# Altium footprint library PcbLib_nizovie.PcbLib: 15 footprints
Each footprint in its own frame and in the unit in brackets; x right, y up, seen from the top. Pads: shape width x height; smd on the part's side, far side on the other; paste and mask are expansions set on the pad; w line width, h text height; cw(c..) or ccw(c..) is an arc to the next point about the centre after c.
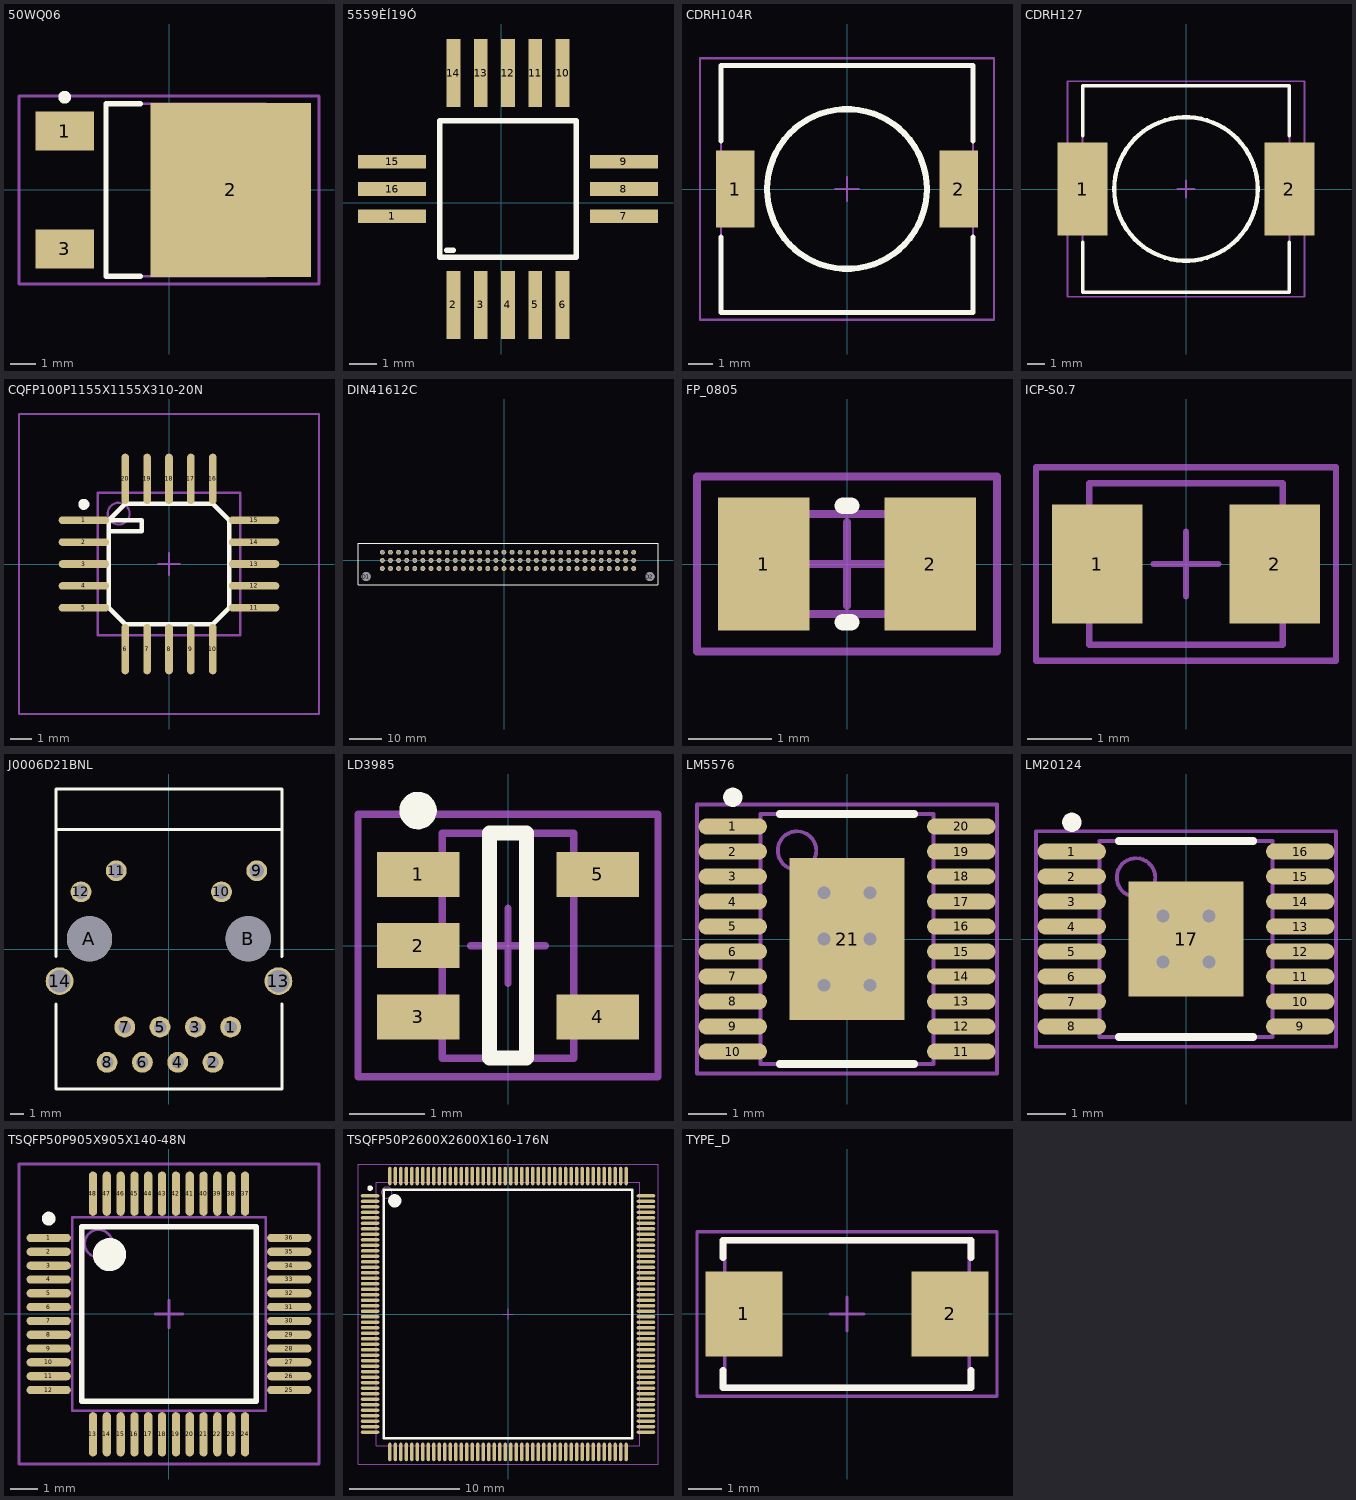
[diagram p0: the footprints below, top view; thin cyan lines are the x and y axes]

## 50WQ06 [mm] "D-PAK, 3-Pads, Body 6,2x6,7mm (max), IPC Medium Density"
height 2.39
pads (3):
  rect 2.28x1.524 smd: 1(-4.05,2.29) 3(-4.05,-2.29)
  rect 6.23x6.74 smd: 2(2.4,0)
Top Overlay:
  circle w0.25: c-4.05,3.602 r0.125
  lines w0.2: -1.115,-3.35 -2.45,-3.35 -2.45,3.35 -1.115,3.35
Mechanical 13:
  lines w0.1: -2.45,-3.35 -2.45,3.35 3.75,3.35 3.75,-3.35 -2.45,-3.35
Mechanical 15:
  lines w0.1: -0.5,0 0.5,0 ; 0,-0.5 0,0.5 ; -5.825,-3.65 -5.825,3.65 5.825,3.65 5.825,-3.65 -5.825,-3.65
3D body: height 2.39, standoff 0.61, extent -2.45,-3.35 3.75,3.35

## 5559ÈÍ19Ó [mm]
pads (16):
  rect 2.5x0.5 smd: 1(-4,-0.5) 7(4.5,-0.5) 8(4.5,0.5) 9(4.5,1.5) 15(-4,1.5) 16(-4,0.5)
  rect 0.5x2.5 smd: 2(-1.75,-3.75) 3(-0.75,-3.75) 4(0.25,-3.75) 5(1.25,-3.75) 6(2.25,-3.75) 10(2.25,4.75) 11(1.25,4.75) 12(0.25,4.75) 13(-0.75,4.75) 14(-1.75,4.75)
Top Overlay:
  lines w0.2: -2,-1.75 -1.75,-1.75 ; -2.25,-2 2.75,-2 2.75,3 -2.25,3 -2.25,-2
3D body: height 3, standoff 0, extent -3,-2.75 3.5,3.75

## CDRH104R [mm] "Precision Wire Wound Inductor, 2-Leads, Body 10,5x10,3mm, IPC Medium Density"
height 4
pads (2):
  rect 1.6x3.2 smd: 1(-4.65,0) 2(4.65,0)
Top Overlay:
  circle w0.254: c0,0 r3.327
  lines w0.2: -5.25,-2 -5.25,-5.15 5.25,-5.15 5.25,-2 ; -5.25,2 -5.25,5.15 5.25,5.15 5.25,2
Mechanical 13:
  lines w0.1: -5.25,-5.15 5.25,-5.15 5.25,5.15 -5.25,5.15 -5.25,-5.15
Mechanical 15:
  lines w0.1: -0.5,0 0.5,0 ; 0,-0.5 0,0.5 ; -6.125,-5.45 6.125,-5.45 6.125,5.45 -6.125,5.45 -6.125,-5.45
3D body: height 4, standoff 0, extent -5.25,-5.15 5.25,5.15

## CDRH127 [mm] "Precision Wire Wound Inductor, 2-Leads, Body 12,0x12,0mm, IPC Medium Density"
height 8
pads (2):
  rect 2.9x5.4 smd: 1(-6,0) 2(6,0)
Top Overlay:
  circle w0.254: c0,0 r4.16
  lines w0.2: -6,-3.1 -6,-6 6,-6 6,-3.1 ; -6,3.1 -6,6 6,6 6,3.1
Mechanical 13:
  lines w0.1: -6,-6 -6,6 6,6 6,-6 -6,-6
Mechanical 15:
  lines w0.1: -0.5,0 0.5,0 ; 0,-0.5 0,0.5 ; -6.875,-6.25 -6.875,6.25 6.875,6.25 6.875,-6.25 -6.875,-6.25
3D body: height 8, standoff 0, extent -6,-6 6,6

## CQFP100P1155X1155X310-20N [mm] "CQFP, 20-Leads, Body 11,3x11,3mm (max), Pitch 1,00mm, IPC Medium Density"
height 3.1
pads (20):
  oval 2.3x0.35 smd: 1(-3.89,2) 2(-3.89,1) 3(-3.89,0) 4(-3.89,-1) 5(-3.89,-2) 11(3.89,-2) 12(3.89,-1) 13(3.89,0) 14(3.89,1) 15(3.89,2)
  oval 0.35x2.3 smd: 6(-2,-3.89) 7(-1,-3.89) 8(0,-3.89) 9(1,-3.89) 10(2,-3.89) 16(2,3.89) 17(1,3.89) 18(0,3.89) 19(-1,3.89) 20(-2,3.89)
Top Overlay:
  circle w0.25: c-3.89,2.725 r0.125
  lines w0.2: -2.75,1.5 -1.25,1.5 -1.25,2 -2.75,2 ; -2.75,2 -2.75,-2 -2,-2.75 2,-2.75 2.75,-2 2.75,2 2,2.75 -2,2.75 -2.75,2
Mechanical 13:
  circle w0.1: c-2.3,2.3 r0.5
  lines w0.1: -3.25,-3.25 -3.25,3.25 3.25,3.25 3.25,-3.25 -3.25,-3.25
Mechanical 15:
  lines w0.1: -0.5,0 0.5,0 ; 0,-0.5 0,0.5 ; -6.85,-6.85 -6.85,6.85 6.85,6.85 6.85,-6.85 -6.85,-6.85
3D body: height 3.1, standoff 0.25, extent -3.25,-3.25 3.25,3.25

## DIN41612C [mm]
pads (98):
  round 1.524 hole 1: A1(40.6,-2.54) A2(38.06,-2.54) A3(35.52,-2.54) A4(32.98,-2.54) A5(30.44,-2.54) A6(27.9,-2.54) A7(25.36,-2.54) A8(22.82,-2.54) A9(20.28,-2.54) A10(17.74,-2.54) A11(15.2,-2.54) A12(12.66,-2.54) A13(10.12,-2.54) A14(7.58,-2.54) A15(5.04,-2.54) A16(2.5,-2.54) A17(-0.04,-2.54) A18(-2.58,-2.54) A19(-5.12,-2.54) A20(-7.66,-2.54) A21(-10.2,-2.54) A22(-12.74,-2.54) A23(-15.28,-2.54) A24(-17.82,-2.54) A25(-20.36,-2.54) A26(-22.9,-2.54) A27(-25.44,-2.54) A28(-27.98,-2.54) A29(-30.52,-2.54) A30(-33.06,-2.54) A31(-35.6,-2.54) A32(-38.14,-2.54) B1(40.6,0) B2(38.06,0) B3(35.52,0) B4(32.98,0) B5(30.44,0) B6(27.9,0) B7(25.36,0) B8(22.82,0) B9(20.28,0) B10(17.74,0) B11(15.2,0) B12(12.66,0) B13(10.12,0) B14(7.58,0) B15(5.04,0) B16(2.5,0) B17(-0.04,0) B18(-2.58,0) B19(-5.12,0) B20(-7.66,0) B21(-10.2,0) B22(-12.74,0) B23(-15.28,0) B24(-17.82,0) B25(-20.36,0) B26(-22.9,0) B27(-25.44,0) B28(-27.98,0) B29(-30.52,0) B30(-33.06,0) B31(-35.6,0) B32(-38.14,0) C1(40.6,2.54) C2(38.06,2.54) C3(35.52,2.54) C4(32.98,2.54) C5(30.44,2.54) C6(27.9,2.54) C7(25.36,2.54) C8(22.82,2.54) C9(20.28,2.54) C10(17.74,2.54) C11(15.2,2.54) C12(12.66,2.54) C13(10.12,2.54) C14(7.58,2.54) C15(5.04,2.54) C16(2.5,2.54) C17(-0.04,2.54) C18(-2.58,2.54) C19(-5.12,2.54) C20(-7.66,2.54) C21(-10.2,2.54) C22(-12.74,2.54) C23(-15.28,2.54) C24(-17.82,2.54) C25(-20.36,2.54) C26(-22.9,2.54) C27(-25.44,2.54) C28(-27.98,2.54) C29(-30.52,2.54) C30(-33.06,2.54) C31(-35.6,2.54) C32(-38.14,2.54)
  round 2.8 hole 2.8: D1(-43.22,-5.08) D2(45.68,-5.08)
Top Overlay:
  lines w0.2: -45.77,-7.63 48.23,-7.63 ; -45.77,-7.555 -45.77,5.37 48.23,5.37 48.23,-7.555

## FP_0805 [mm] "Chip Resistor, 2-Leads, Body 2,1x1,3mm, IPC Medium Density"
height 0.55
pads (2):
  rect 1.1x1.6 smd: 1(-1,0) 2(1,0)
Top Overlay:
  lines w0.2: -0.05,-0.7 0.05,-0.7 ; -0.05,0.7 0.05,0.7
Mechanical 13:
  lines w0.1: -1.1,-0.6 -1.1,0.6 1.1,0.6 1.1,-0.6 -1.1,-0.6
Mechanical 15:
  lines w0.1: -0.5,0 0.5,0 ; 0,-0.5 0,0.5 ; -1.8,-1.05 -1.8,1.05 1.8,1.05 1.8,-1.05 -1.8,-1.05
3D body: height 0.55, standoff 0, extent -1.1,-0.6 1.1,0.6

## ICP-S0.7 [mm] "Molded Capacitor, 2-Leads, Body 3,0x2,5mm, IPC Medium Density"
height 1.8
pads (2):
  rect 1.4x1.85 smd: 1(-1.375,0) 2(1.375,0)
Mechanical 13:
  lines w0.1: -1.5,-1.25 1.5,-1.25 1.5,1.25 -1.5,1.25 -1.5,-1.25
Mechanical 15:
  lines w0.1: -0.5,0 0.5,0 ; 0,-0.5 0,0.5 ; -2.325,-1.5 2.325,-1.5 2.325,1.5 -2.325,1.5 -2.325,-1.5
3D body: height 1.8, standoff 0, extent -1.5,-1.25 1.5,1.25

## J0006D21BNL [mm]
pads (16):
  round 1.5 hole 0.9: 1(4.445,-5.588) 2(3.175,-8.128) 3(1.905,-5.588) 4(0.635,-8.128) 5(-0.635,-5.588) 6(-1.905,-8.128) 7(-3.175,-5.588) 8(-4.445,-8.128)
  round 1.5 hole 1.02: 9(6.325,5.662) 10(3.785,4.142) 11(-3.785,5.662) 12(-6.325,4.142)
  round 2 hole 1.6: 13(7.885,-2.288) 14(-7.865,-2.288)
  round 3.25 hole 3.25: A(-5.715,0.762) B(5.715,0.762)
Top Overlay:
  lines w0.2: -8.128,-3.937 -8.125,-3.94 -8.125,-10.048 8.135,-10.048 8.135,-3.944 8.128,-3.937 ; -8.128,-0.508 -8.125,-0.505 -8.125,11.542 8.135,11.542 8.135,-0.501 ; -8.125,8.622 8.135,8.622 ; 8.135,-0.501 8.128,-0.508 8.135,-0.501

## LD3985 [mm] "SOT23, 5-Leads, Body 3,0x3,0mm (max), Pitch 0,95mm, IPC Medium Density"
height 1.45
pads (5):
  rect 1.1x0.6 smd: 1(-1.2,0.95) 2(-1.2,0) 3(-1.2,-0.95) 4(1.2,-0.95) 5(1.2,0.95)
Top Overlay:
  circle w0.25: c-1.2,1.8 r0.125
  lines w0.2: -0.25,-1.5 0.25,-1.5 0.25,1.5 -0.25,1.5 -0.25,-1.5
Mechanical 13:
  lines w0.1: -0.875,-1.5 -0.875,1.5 0.875,1.5 0.875,-1.5 -0.875,-1.5
Mechanical 15:
  lines w0.1: -0.5,0 0.5,0 ; 0,-0.5 0,0.5 ; -2,-1.75 -2,1.75 2,1.75 2,-1.75 -2,-1.75
3D body: height 1.45, standoff 0.05, extent -0.875,-1.5 0.875,1.5

## LM5576 [mm] "TSOP, 20-Leads, Body 6,5x4,5mm (max), Pitch 0,65mm, IPC Medium Density"
height 1.1
pads (21):
  oval 1.78x0.42 smd: 1(-2.97,2.925) 2(-2.97,2.275) 3(-2.97,1.625) 4(-2.97,0.975) 5(-2.97,0.325) 6(-2.97,-0.325) 7(-2.97,-0.975) 8(-2.97,-1.625) 9(-2.97,-2.275) 10(-2.97,-2.925) 11(2.97,-2.925) 12(2.97,-2.275) 13(2.97,-1.625) 14(2.97,-0.975) 15(2.97,-0.325) 16(2.97,0.325) 17(2.97,0.975) 18(2.97,1.625) 19(2.97,2.275) 20(2.97,2.925)
  rect 3x4.2 smd: 21(0,0)
via -0.6,1.2 diameter 0.66 hole 0.33
via 0.6,1.2 diameter 0.66 hole 0.33
via -0.6,0 diameter 0.66 hole 0.33
via 0.6,0 diameter 0.66 hole 0.33
via -0.6,-1.2 diameter 0.66 hole 0.33
via 0.6,-1.2 diameter 0.66 hole 0.33
Top Overlay:
  circle w0.25: c-2.97,3.685 r0.125
  lines w0.2: -1.75,-3.25 1.75,-3.25 ; -1.75,3.25 1.75,3.25
Top Solder:
  lines w0.2: -3.749,0 -2.225,0 ; -3.724,-2.6 -2.2,-2.6 ; -3.724,-1.95 -2.2,-1.95 ; -3.724,-1.3 -2.2,-1.3 ; -3.724,-0.65 -2.2,-0.65 ; -3.724,0.65 -2.2,0.65 ; -3.724,1.3 -2.2,1.3 ; -3.724,2.6 -2.2,2.6 ; -3.699,1.95 -2.175,1.95 ; 2.201,-2.6 3.725,-2.6 ; 2.201,-1.95 3.725,-1.95 ; 2.201,-1.3 3.725,-1.3 ; 2.201,1.3 3.725,1.3 ; 2.201,1.95 3.725,1.95 ; 2.226,-0.65 3.75,-0.65 ; 2.226,0 3.75,0 ; 2.226,0.65 3.75,0.65 ; 2.226,2.6 3.75,2.6
Mechanical 13:
  circle w0.1: c-1.3,2.3 r0.5
  lines w0.1: -2.25,-3.25 -2.25,3.25 2.25,3.25 2.25,-3.25 -2.25,-3.25
Mechanical 15:
  lines w0.1: -0.5,0 0.5,0 ; 0,-0.5 0,0.5 ; -3.9,-3.5 -3.9,3.5 3.9,3.5 3.9,-3.5 -3.9,-3.5
3D body: height 1.1, standoff 0.1, extent -2.25,-3.25 2.25,3.25

## LM20124 [mm] "TSOP, 16-Leads, Body 5,1x4,5mm (max), Pitch 0,65mm, IPC Medium Density"
height 1.1
pads (17):
  oval 1.78x0.42 smd: 1(-2.97,2.275) 2(-2.97,1.625) 3(-2.97,0.975) 4(-2.97,0.325) 5(-2.97,-0.325) 6(-2.97,-0.975) 7(-2.97,-1.625) 8(-2.97,-2.275) 9(2.97,-2.275) 10(2.97,-1.625) 11(2.97,-0.975) 12(2.97,-0.325) 13(2.97,0.325) 14(2.97,0.975) 15(2.97,1.625) 16(2.97,2.275)
  rect 3x3 smd: 17(0,0)
via 0.6,-0.6 diameter 0.66 hole 0.33
via -0.6,-0.6 diameter 0.66 hole 0.33
via 0.6,0.6 diameter 0.66 hole 0.33
via -0.6,0.6 diameter 0.66 hole 0.33
Top Overlay:
  circle w0.25: c-2.97,3.035 r0.125
  lines w0.2: -1.75,-2.55 1.75,-2.55 ; -1.75,2.55 1.75,2.55
Top Solder:
  lines w0.2: -3.725,-0.65 -2.25,-0.65 ; -3.725,0 -2.25,0 ; -3.725,0.65 -2.25,0.65 ; -3.725,1.3 -2.25,1.3 ; -3.7,-1.95 -2.225,-1.95 ; -3.7,-1.3 -2.225,-1.3 ; -3.7,1.95 -2.225,1.95 ; 2.25,-1.95 3.725,-1.95 ; 2.25,-1.3 3.725,-1.3 ; 2.25,-0.65 3.725,-0.65 ; 2.25,1.3 3.725,1.3 ; 2.25,1.95 3.725,1.95 ; 2.275,0 3.75,0 ; 2.275,0.65 3.75,0.65
Mechanical 13:
  circle w0.1: c-1.3,1.6 r0.5
  lines w0.1: -2.25,-2.55 2.25,-2.55 2.25,2.55 -2.25,2.55 -2.25,-2.55
Mechanical 15:
  lines w0.1: -0.5,0 0.5,0 ; 0,-0.5 0,0.5 ; -3.9,-2.8 3.9,-2.8 3.9,2.8 -3.9,2.8 -3.9,-2.8
3D body: height 1.1, standoff 0.1, extent -2.25,-2.55 2.25,2.55

## TSQFP50P905X905X140-48N [mm] "TSQFP, 48-Leads, Body 8,9x8,9mm (max), Pitch 0,50mm, IPC Medium Density"
height 1.4
pads (48):
  oval 1.6x0.3 smd: 1(-4.35,2.75) 2(-4.35,2.25) 3(-4.35,1.75) 4(-4.35,1.25) 5(-4.35,0.75) 6(-4.35,0.25) 7(-4.35,-0.25) 8(-4.35,-0.75) 9(-4.35,-1.25) 10(-4.35,-1.75) 11(-4.35,-2.25) 12(-4.35,-2.75) 25(4.35,-2.75) 26(4.35,-2.25) 27(4.35,-1.75) 28(4.35,-1.25) 29(4.35,-0.75) 30(4.35,-0.25) 31(4.35,0.25) 32(4.35,0.75) 33(4.35,1.25) 34(4.35,1.75) 35(4.35,2.25) 36(4.35,2.75)
  oval 0.3x1.6 smd: 13(-2.75,-4.35) 14(-2.25,-4.35) 15(-1.75,-4.35) 16(-1.25,-4.35) 17(-0.75,-4.35) 18(-0.25,-4.35) 19(0.25,-4.35) 20(0.75,-4.35) 21(1.25,-4.35) 22(1.75,-4.35) 23(2.25,-4.35) 24(2.75,-4.35) 37(2.75,4.35) 38(2.25,4.35) 39(1.75,4.35) 40(1.25,4.35) 41(0.75,4.35) 42(0.25,4.35) 43(-0.25,4.35) 44(-0.75,4.35) 45(-1.25,4.35) 46(-1.75,4.35) 47(-2.25,4.35) 48(-2.75,4.35)
Top Overlay:
  circle w0.6: c-2.15,2.15 r0.3
  circle w0.25: c-4.35,3.45 r0.125
  lines w0.2: -3.15,-3.15 3.15,-3.15 3.15,3.15 -3.15,3.15 -3.15,-3.15
Mechanical 13:
  circle w0.1: c-2.55,2.55 r0.5
  lines w0.1: -3.5,-3.5 3.5,-3.5 3.5,3.5 -3.5,3.5 -3.5,-3.5
Mechanical 15:
  lines w0.1: -0.5,0 0.5,0 ; 0,-0.5 0,0.5 ; -5.425,-5.425 5.425,-5.425 5.425,5.425 -5.425,5.425 -5.425,-5.425
3D body: height 1.4, standoff 0.05, extent -3.5,-3.5 3.5,3.5

## TSQFP50P2600X2600X160-176N [mm] "TSQFP, 176-Leads, Body 26,1x26,1mm (max), Pitch 0,50mm, IPC Medium Density"
height 1.6
pads (176):
  oval 1.7x0.3 smd: 1(-12.55,10.75) 2(-12.55,10.25) 3(-12.55,9.75) 4(-12.55,9.25) 5(-12.55,8.75) 6(-12.55,8.25) 7(-12.55,7.75) 8(-12.55,7.25) 9(-12.55,6.75) 10(-12.55,6.25) 11(-12.55,5.75) 12(-12.55,5.25) 13(-12.55,4.75) 14(-12.55,4.25) 15(-12.55,3.75) 16(-12.55,3.25) 17(-12.55,2.75) 18(-12.55,2.25) 19(-12.55,1.75) 20(-12.55,1.25) 21(-12.55,0.75) 22(-12.55,0.25) 23(-12.55,-0.25) 24(-12.55,-0.75) 25(-12.55,-1.25) 26(-12.55,-1.75) 27(-12.55,-2.25) 28(-12.55,-2.75) 29(-12.55,-3.25) 30(-12.55,-3.75) 31(-12.55,-4.25) 32(-12.55,-4.75) 33(-12.55,-5.25) 34(-12.55,-5.75) 35(-12.55,-6.25) 36(-12.55,-6.75) 37(-12.55,-7.25) 38(-12.55,-7.75) 39(-12.55,-8.25) 40(-12.55,-8.75) 41(-12.55,-9.25) 42(-12.55,-9.75) 43(-12.55,-10.25) 44(-12.55,-10.75) 89(12.55,-10.75) 90(12.55,-10.25) 91(12.55,-9.75) 92(12.55,-9.25) 93(12.55,-8.75) 94(12.55,-8.25) 95(12.55,-7.75) 96(12.55,-7.25) 97(12.55,-6.75) 98(12.55,-6.25) 99(12.55,-5.75) 100(12.55,-5.25) 101(12.55,-4.75) 102(12.55,-4.25) 103(12.55,-3.75) 104(12.55,-3.25) 105(12.55,-2.75) 106(12.55,-2.25) 107(12.55,-1.75) 108(12.55,-1.25) 109(12.55,-0.75) 110(12.55,-0.25) 111(12.55,0.25) 112(12.55,0.75) 113(12.55,1.25) 114(12.55,1.75) 115(12.55,2.25) 116(12.55,2.75) 117(12.55,3.25) 118(12.55,3.75) 119(12.55,4.25) 120(12.55,4.75) 121(12.55,5.25) 122(12.55,5.75) 123(12.55,6.25) 124(12.55,6.75) 125(12.55,7.25) 126(12.55,7.75) 127(12.55,8.25) 128(12.55,8.75) 129(12.55,9.25) 130(12.55,9.75) 131(12.55,10.25) 132(12.55,10.75)
  oval 0.3x1.7 smd: 45(-10.75,-12.55) 46(-10.25,-12.55) 47(-9.75,-12.55) 48(-9.25,-12.55) 49(-8.75,-12.55) 50(-8.25,-12.55) 51(-7.75,-12.55) 52(-7.25,-12.55) 53(-6.75,-12.55) 54(-6.25,-12.55) 55(-5.75,-12.55) 56(-5.25,-12.55) 57(-4.75,-12.55) 58(-4.25,-12.55) 59(-3.75,-12.55) 60(-3.25,-12.55) 61(-2.75,-12.55) 62(-2.25,-12.55) 63(-1.75,-12.55) 64(-1.25,-12.55) 65(-0.75,-12.55) 66(-0.25,-12.55) 67(0.25,-12.55) 68(0.75,-12.55) 69(1.25,-12.55) 70(1.75,-12.55) 71(2.25,-12.55) 72(2.75,-12.55) 73(3.25,-12.55) 74(3.75,-12.55) 75(4.25,-12.55) 76(4.75,-12.55) 77(5.25,-12.55) 78(5.75,-12.55) 79(6.25,-12.55) 80(6.75,-12.55) 81(7.25,-12.55) 82(7.75,-12.55) 83(8.25,-12.55) 84(8.75,-12.55) 85(9.25,-12.55) 86(9.75,-12.55) 87(10.25,-12.55) 88(10.75,-12.55) 133(10.75,12.55) 134(10.25,12.55) 135(9.75,12.55) 136(9.25,12.55) 137(8.75,12.55) 138(8.25,12.55) 139(7.75,12.55) 140(7.25,12.55) 141(6.75,12.55) 142(6.25,12.55) 143(5.75,12.55) 144(5.25,12.55) 145(4.75,12.55) 146(4.25,12.55) 147(3.75,12.55) 148(3.25,12.55) 149(2.75,12.55) 150(2.25,12.55) 151(1.75,12.55) 152(1.25,12.55) 153(0.75,12.55) 154(0.25,12.55) 155(-0.25,12.55) 156(-0.75,12.55) 157(-1.25,12.55) 158(-1.75,12.55) 159(-2.25,12.55) 160(-2.75,12.55) 161(-3.25,12.55) 162(-3.75,12.55) 163(-4.25,12.55) 164(-4.75,12.55) 165(-5.25,12.55) 166(-5.75,12.55) 167(-6.25,12.55) 168(-6.75,12.55) 169(-7.25,12.55) 170(-7.75,12.55) 171(-8.25,12.55) 172(-8.75,12.55) 173(-9.25,12.55) 174(-9.75,12.55) 175(-10.25,12.55) 176(-10.75,12.55)
Top Overlay:
  circle w0.6: c-10.3,10.3 r0.3
  circle w0.25: c-12.55,11.45 r0.125
  lines w0.2: -11.3,-11.3 11.3,-11.3 11.3,11.3 -11.3,11.3 -11.3,-11.3
Mechanical 13:
  circle w0.1: c-11.05,11.05 r0.5
  lines w0.1: -12,-12 12,-12 12,12 -12,12 -12,-12
Mechanical 15:
  lines w0.1: -0.5,0 0.5,0 ; 0,-0.5 0,0.5 ; -13.65,-13.65 13.65,-13.65 13.65,13.65 -13.65,13.65 -13.65,-13.65
3D body: height 1.6, standoff 0.05, extent -12,-12 12,12

## TYPE_D [mm] "Molded Capacitor, 2-Leads, Body 7,3x4,3mm, IPC Medium Density"
height 3
pads (2):
  rect 2.3x2.55 smd: 1(-3.075,0) 2(3.075,0)
Top Overlay:
  lines w0.2: -3.7,-1.675 -3.7,-2.2 3.7,-2.2 3.7,-1.675 ; -3.7,1.675 -3.7,2.2 3.7,2.2 3.7,1.675
Mechanical 13:
  lines w0.1: -3.65,-2.15 3.65,-2.15 3.65,2.15 -3.65,2.15 -3.65,-2.15
Mechanical 15:
  lines w0.1: -0.5,0 0.5,0 ; 0,-0.5 0,0.5 ; -4.475,-2.45 4.475,-2.45 4.475,2.45 -4.475,2.45 -4.475,-2.45
3D body: height 3, standoff 0, extent -3.65,-2.15 3.65,2.15